# Altium footprint library xbowtie.PcbLib: 47 footprints (part 1 of 3)
Each footprint in its own frame and in the unit in brackets; x right, y up, seen from the top. Pads: shape width x height; smd on the part's side, far side on the other; paste and mask are expansions set on the pad; w line width, h text height; cw(c..) or ccw(c..) is an arc to the next point about the centre after c.
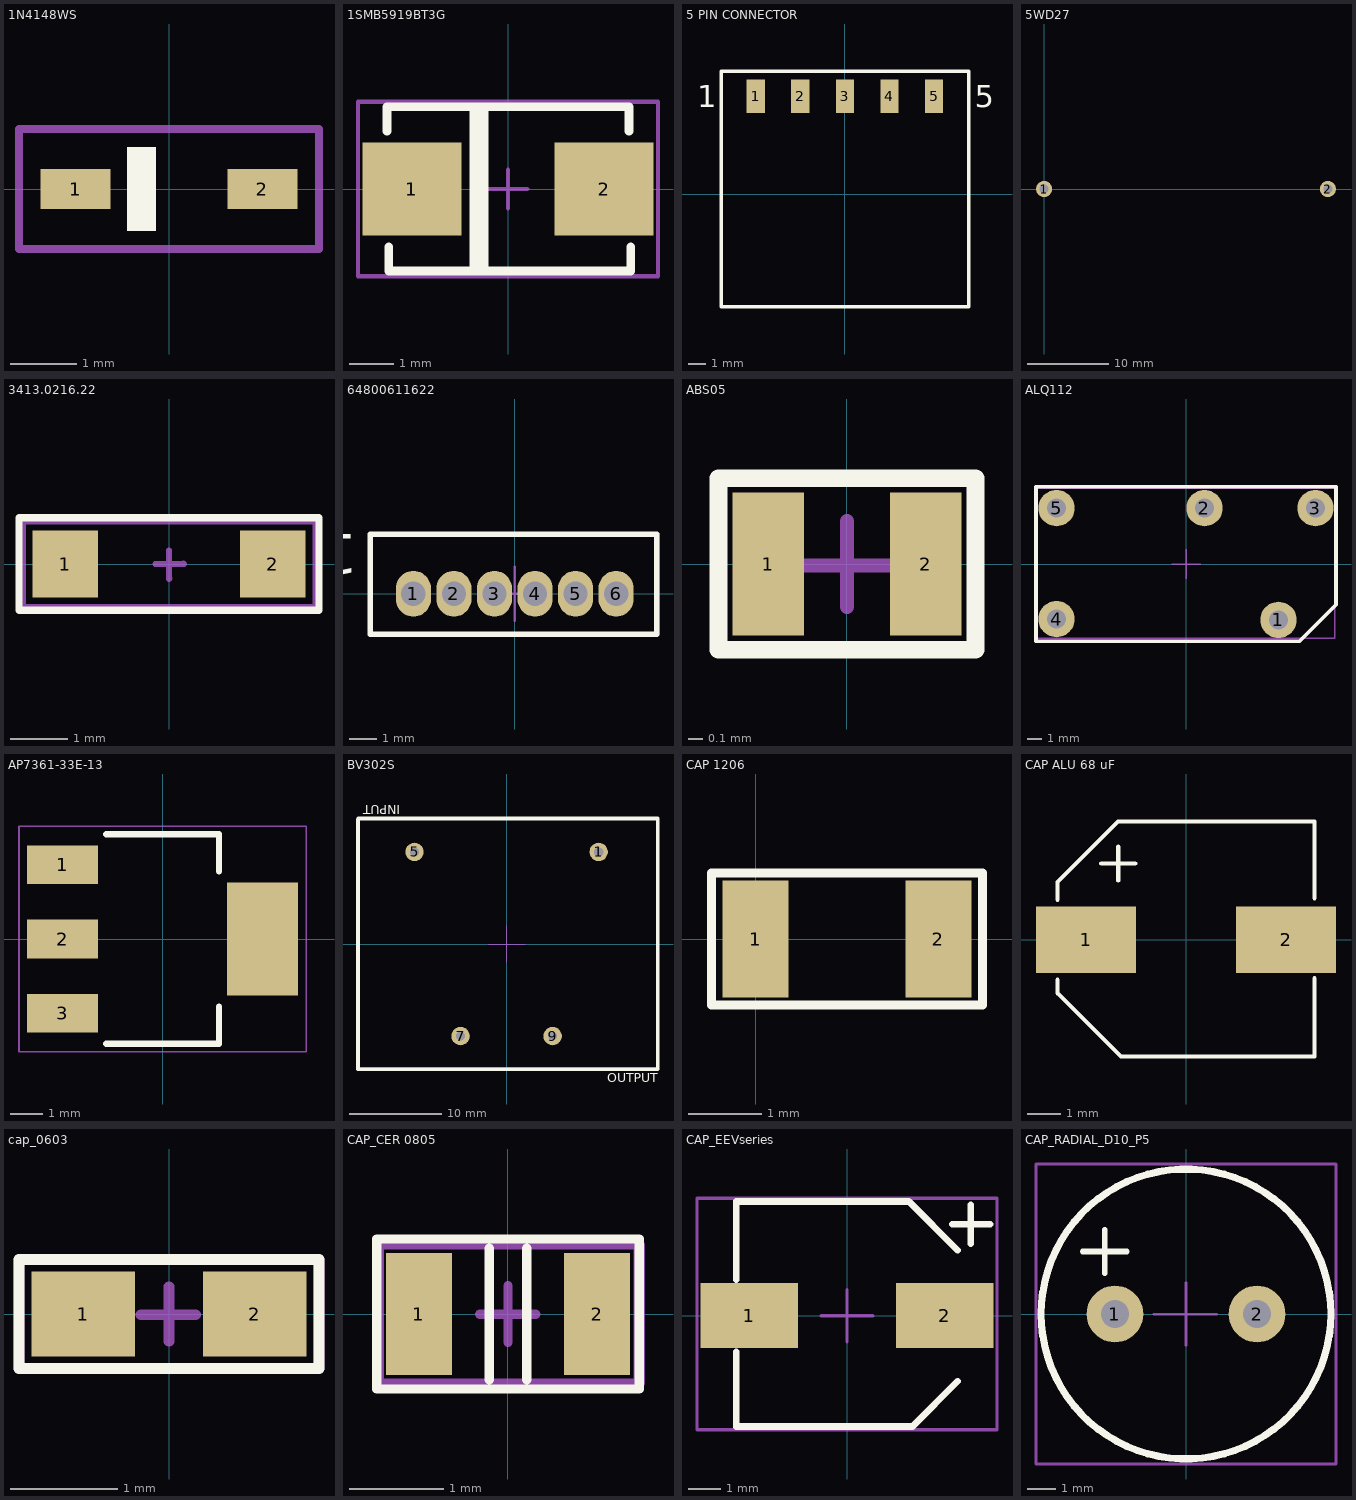
[diagram p0: the footprints below, top view; thin cyan lines are the x and y axes]

## 1N4148WS [mm]
pads (2):
  rect 1.05x0.6 smd: 1(-1.4,0) 2(1.4,0)
Top Overlay:
  region: -0.2,-0.625 -0.625,-0.625 -0.625,0.625 -0.2,0.625
Bottom 3D Body (Mech15):
  lines w0.127: -2.25,-0.9 -2.25,0.9 2.25,0.9 2.25,-0.9 -2.25,-0.9
3D body "step_temp.STEP": height 1, standoff 0, extent -1.25,-0.615 1.25,0.635

## 1SMB5919BT3G [mm]
pads (2):
  rect 2.25x2.12 smd mask+0.05: 1(-2.185,0) 2(2.185,0)
Top Overlay:
  rectangle: -0.88,-1.87 -0.44,1.87
  lines w0.2: -2.75,1.32 -2.75,1.87 2.75,1.87 2.75,1.32 ; -2.711,-1.316 -2.711,-1.866 2.789,-1.866 2.789,-1.316
Top Component Center:
  lines w0.1: -0.44,0 0.44,0 ; 0,-0.44 0,0.44 ; -3.41,-1.98 -3.41,1.98 3.41,1.98 3.41,-1.98 -3.41,-1.98
Top Designator:
  lines w0.1: -3.41,-1.98 -3.41,1.98 3.41,1.98 3.41,-1.98 -3.41,-1.98
  text ".Designator" at -1.616,-0.778 h1.52
3D body "1SMB5919BT3G.STEP": height 2.49, standoff 0.02, extent -2.72,-1.78 2.72,1.78

## 5 PIN CONNECTOR [mm]
pads (5):
  rect 1.04x1.91 smd mask+0: 1(-5.08,5.577) 2(-2.54,5.577) 3(0,5.577) 4(2.54,5.577) 5(5.08,5.577)
Top Overlay:
  lines w0.2: -7.054,-6.405 7.054,-6.405 7.054,6.983 -7.054,6.983 -7.054,-6.405
  text "5" at 7.395,4.942 h1.27
  text "1" at -8.424,4.942 h1.27
Top Paste:
  region: 5.6,4.622 4.56,4.622 4.56,6.532 5.6,6.532
  region: 3.06,4.622 2.02,4.622 2.02,6.532 3.06,6.532
  region: 0.52,4.622 -0.52,4.622 -0.52,6.532 0.52,6.532
  region: -2.02,4.622 -3.06,4.622 -3.06,6.532 -2.02,6.532
  region: -4.56,4.622 -5.6,4.622 -5.6,6.532 -4.56,6.532
Top Solder:
  region: 5.651,4.571 4.509,4.571 4.509,6.583 5.651,6.583
  region: 3.111,4.571 1.969,4.571 1.969,6.583 3.111,6.583
  region: 0.571,4.571 -0.571,4.571 -0.571,6.583 0.571,6.583
  region: -1.969,4.571 -3.111,4.571 -3.111,6.583 -1.969,6.583
  region: -4.509,4.571 -5.651,4.571 -5.651,6.583 -4.509,6.583
3D body "SMH-105-02-L-S.stp": height 2.45, standoff 0.04, extent -6.477,-5.764 6.731,6.174

## 5WD27 [mm]
pads (2):
  round 2 hole 1.1 paste-2539.97 mask+0.076: 1(0,0) 2(35.052,0)
3D body "5WD27.step": height 10.07, standoff -5.76, extent -0.374,-4.824 35.426,4.826

## 3413.0216.22 [mm]
pads (2):
  rect 1.14x1.16 smd: 1(-1.8,0) 2(1.8,0)
Top Overlay:
  lines w0.125: -2.6,-0.8 -2.6,0.7 -2.6,0.8 2.6,0.8 2.6,-0.8 -2.6,-0.8
Top Component Center:
  lines w0.1: -0.24,0 0,0 ; 0,0.24 0,0 ; 0.01,-0.25 0,-0.26 0,0 ; 0.25,0.01 0.26,0 0,0 ; -2.53,-0.75 -2.53,0.73 -2.52,0.74 2.54,0.74 2.54,-0.75 -2.53,-0.75
Top Designator:
  lines w0.1: -2.525,-0.745 -2.525,0.735 2.535,0.735 2.535,-0.745 -2.525,-0.745
  text ".Designator" at -1.61,-0.377 h1
3D body "3413.0216.22.STEP": height -0.4, standoff -1, extent -1.6,-0.8 1.6,0.8

## 64800611622 [mm]
pads (6):
  oval 1.3x1.7 hole 0.9 mask+0.05: 1(-3.75,0) 2(-2.25,0) 3(-0.75,0) 4(0.75,0) 5(2.25,0) 6(3.75,0)
Top Overlay:
  lines w0.2: -5.35,-1.5 5.25,-1.5 5.25,2.2 -5.35,2.2 -5.35,-1.5
  text "1" at -5.8,2.2 h1.5
Top Component Center:
  lines w0.1: -0.994,0 1.006,0 ; 0,-1 0,1 ; -5.35,-1.5 5.25,-1.5 5.25,2.2 -5.35,2.2 -5.35,-1.5
Top Designator:
  lines w0.1: -5.3,-1.5 -5.3,2.2 5.3,2.2 5.3,-1.5 -5.3,-1.5
  text ".Designator" at -3.5,-0.3 h1.5
3D body "64800611622 (rev1).stp": height 4.55, standoff -2.65, extent -5.3,-1.4 5.2,2.1

## ABS05 [mm]
pads (2):
  rect 0.5x1 smd mask+0.05: 1(-0.55,0) 2(0.55,0)
Top Overlay:
  lines w0.125: -0.9,-0.6 0.9,-0.6 0.9,0.6 -0.9,0.6 -0.9,-0.6
Top Component Center:
  lines w0.1: -0.294,-0.011 0.306,-0.011 ; 0,-0.3 0,0.3 0,0 ; -0.9,-0.6 -0.9,0.6 0.89,0.6 0.89,-0.6 -0.9,-0.6
Top Designator:
  lines w0.1: -0.9,-0.6 -0.9,0.6 0.9,0.6 0.9,-0.6 -0.9,-0.6
  text ".Designator" at -0.65,-0.317 h0.7
3D body "ABS05-32.768KHZ-T--3DModel-STEP-400430.STEP": height 0.5, standoff 0, extent -0.8,-0.5 0.8,0.5

## ALQ112 [mm]
pads (5):
  round 2.5 hole 1.3 mask+0.05: 1(6.35,-3.84) 2(1.27,3.84) 3(8.89,3.84) 4(-8.89,-3.78) 5(-8.89,3.84)
Top Overlay:
  lines w0.25: -10.3,5.2 -10.3,-5.3 -5.15,-5.3 5.15,-5.3 7.8,-5.3 10.3,-2.8 10.3,5.2 ; -10.3,5.3 10.3,5.3
Top Component Center:
  lines w0.1: -0.983,-0.033 1.017,-0.033 ; 0,-1 0,1 ; -10.2,-5.1 10.2,-5.1 10.2,5.2 -10.2,5.2 -10.2,-5.1
Top Designator:
  text "'.Designator" at -5.046,0.062 h1.52
3D body: height 15.6, standoff 0.4, extent 7.9,-3.9 8.9,-2.9
3D body: height 0.45, standoff -3.75, extent -9.29,3.44 -8.49,4.24
3D body: height 0.45, standoff -3.75, extent -9.29,-4.18 -8.49,-3.38
3D body: height 0.4, standoff -4, extent 0.77,3.59 1.77,4.09
3D body: height 0.4, standoff -4, extent 5.85,-4.03 6.85,-3.53
3D body: height 0.4, standoff -4, extent 8.417,3.546 9.417,4.046
3D body: height 15.6, standoff 0.4, extent -10.1,-4.9 9.9,5.1

## AP7361-33E-13 [mm]
pads (4):
  rect 2.2x1.2 smd: 1(-3.1,2.3) 2(-3.1,0) 3(-3.1,-2.3)
  rect 2.2x3.5 smd: ""(3.1,0)
Top Overlay:
  lines w0.2: -1.75,-3.25 1.75,-3.25 1.75,-2.1 ; -1.75,3.25 1.75,3.25 1.75,2.1
Bottom 3D Body (Mech15):
  lines w0.05: -4.45,-3.5 -4.45,3.5 4.45,3.5 4.45,-3.5 -4.45,-3.5
3D body "step_temp.STEP": height 1.65, standoff 0, extent -3.5,-3.25 3.5,3.25

## BV302S [mm]
pads (4):
  round 2 hole 1 mask+0.05: 1(10,10) 5(-10,10) 7(-5,-10) 9(5,-10)
Top Overlay:
  lines w0.4: -16.139,-13.593 -16.139,13.559 -16.075,13.623 16.408,13.623 16.408,-13.593 -16.139,-13.593
  text "OUTPUT" at 10.927,-14.994 h1
  text "INPUT" at -11.535,15.081 h1
Bottom Component Center:
  lines w0.1: -2,0 2,0 ; 0,-2 0,2 ; -16.03,-13.411 16.443,-13.411 ; -16.03,-13.411 -16.03,13.591 -16.03,-13.411 ; -16.03,-13.411 16.443,-13.411 ; 16.239,13.599 16.341,13.497 ; 16.239,13.599 -16.03,13.599 16.239,13.599 ; 16.239,13.599 16.341,13.497 ; 16.341,13.497 16.443,13.395 ; 16.341,13.497 16.443,13.395 ; 16.443,-13.411 16.443,13.395 ; 16.443,-13.411 16.443,13.395
Top Designator:
  text ".Designator" at -5.746,-0.238 h1.52
3D body "User Library-Hahn BV EI 302 2902.STEP": height 21.8, standoff -4.5, extent -16.117,-13.744 16.383,13.756

## CAP 1206 [mm]
pads (2):
  rect 0.9x1.6 smd paste-2539.97 mask+0.05: 1(0,0) 2(2.5,0)
Top Overlay:
  lines w0.125: -0.6,-0.9 3.1,-0.9 3.1,0.9 -0.6,0.9 -0.6,-0.9
3D body "GRM21BR60J476ME15K.STEP": height 1.24, standoff -0.01, extent 0.2,-0.725 2.2,0.725

## CAP ALU 68 uF [mm]
pads (2):
  rect 3x2 smd paste-2539.97 mask+0.076: 1(-3,0) 2(3,0)
Top Overlay:
  lines w0.125: -3.85,-1.2 -3.85,-1.6 -3.394,-2.056 -2.564,-2.886 -1.95,-3.5 3.85,-3.5 3.85,-1.15 ; -3.85,1.2 -3.85,1.738 -2.038,3.55 3.85,3.55 3.85,1.25 ; -2.54,2.286 -1.524,2.286 -2.032,2.286 -2.032,2.794 -2.032,1.778
3D body "EEV686M025A9GAA.step": height 5.66, standoff 0, extent -3.8,-3.371 3.8,3.429

## cap_0603 [mil]
pads (2):
  rect 38x31 smd mask+1.97: 1(-31.5,0) 2(31.5,0)
Top Overlay:
  lines w3.94: -55,-20 -55,20 55,20 55,-20 -55,-20
Top Component Center:
  lines w3.94: -10.27,-0.23 9.73,-0.23 ; 0,-10 0,10 ; -55,-20 -55,20 55,20 55,-20 -55,-20
Top Designator:
  lines w3.94: -55,-20 -55,20 55,20 55,-20 -55,-20
  text ".Designator" at -40.06,-9.5 h19.68
3D body "885012206026 (1).STEP": height 31.5, standoff 0, extent -31.49,-15.75 31.5,15.75

## CAP_CER 0805 [mm]
pads (2):
  rect 0.7x1.3 smd mask+0.05: 1(-0.95,0) 2(0.95,0)
Top Overlay:
  lines w0.1: -0.2,-0.7 -0.2,0.7 ; 0.2,-0.7 0.2,0.7 ; -1.4,-0.8 -1.4,0.8 1.4,0.8 1.4,-0.8 -1.4,-0.8
Top Component Center:
  lines w0.1: -0.303,-0.002 0.297,-0.002 ; 0,-0.3 0,0.3 ; -1.37,-0.76 1.39,-0.76 1.39,0.75 -1.35,0.75 -1.37,0.73 -1.37,-0.76
Top Designator:
  lines w0.1: -1.37,0.73 -1.37,-0.74 1.41,-0.74 1.41,0.74 -1.36,0.74
  text ".Designator" at -0.85,-0.307 h0.7
3D body "GRM21BR72A223KA01L.STEP": height 1.23, standoff -0.02, extent -1,-0.725 1,0.725

## CAP_EEVseries [mm]
pads (2):
  rect 3x2 smd mask+0.05: 1(-3,0) 2(3,0)
Top Overlay:
  lines w0.2: -3.4,-1.108 -3.4,-3.4 ; -3.4,1.1 -3.4,3.5 1.9,3.5 3.4,2 ; 3.225,2.808 4.4,2.799 ; 3.4,-2.008 2.008,-3.4 -3.4,-3.4 ; 3.8,2.2 3.8,3.4 ; -3.4,-3.4 -3.4,-3.4
Top Component Center:
  lines w0.1: -4.6,-1 -4.6,3.6 4.6,3.6 4.6,-3.5 -4.6,-3.5 -4.6,-0.9 ; 0,-0.8 0,0.8 0,0 ; 0.007,-0.008 -0.793,-0.008 0.8,-0.008
Top Designator:
  lines w0.1: -4.6,-3.5 4.6,-3.5 4.6,3.6 -4.6,3.6 -4.6,-3.5
  text ".Designator" at -2.5,-0.6 h1.5
3D body "EEV686M035A9HAA.step": height 8.01, standoff 0, extent -3.7,-3.4 3.9,3.4

## CAP_RADIAL_D10_P5 [mm]
pads (2):
  round 2 hole 1 mask+0.05: 1(-2.5,0) 2(2.5,0)
Top Overlay:
  circle w0.254: c0,0 r5.1
  lines w0.2: -3.63,2.2 -2.09,2.2 ; -2.86,1.43 -2.86,2.97
Bottom Component Center:
  lines w0.1: -1.123,-0.009 1.077,-0.009 ; 0,-1.1 0,1.1 ; -5.28,-5.28 -5.28,5.28 5.28,5.28 5.28,5.17 5.28,-5.28 -5.28,-5.28
Top Designator:
  lines w0.1: -5.28,-5.28 -5.28,5.28 5.28,5.28 5.28,-5.28 -5.28,-5.28
  text ".Designator" at -2.55,0.093 h1
3D body "ESH477M050AH4AA (1).step": height 22, standoff -20, extent -5.25,-5.25 5.25,5.25